# EAGLE library part MC14551 (library Traficon)
Quad 2?Channel Analog Multiplexer/Demultiplexer
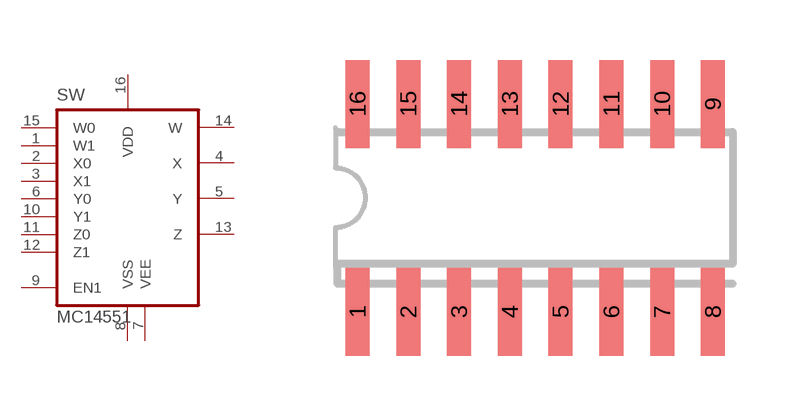
[diagram p102: symbol with the pads of SOIC16N; footprint SOIC16N]

Designator prefix SW

## MC14551  [SOIC16N]
1  W1
2  X0
3  X1
4  X
5  Y
6  Y0
7  VEE
8  VSS
9  EN1
10  Y1
11  Z0
12  Z1
13  Z
14  W
15  W0
16  VDD

## Footprint SOIC16N (pad centres in mm)
SMALL OUTLINE INTEGRATED CIRCUIT
smd 0.6 x 2.2: 1 -4.445,-2.6; 2 -3.175,-2.6; 3 -1.905,-2.6; 4 -0.635,-2.6; 5 0.635,-2.6; 6 1.905,-2.6; 7 3.175,-2.6; 8 4.445,-2.6; 9 4.445,2.6; 10 3.175,2.6; 11 1.905,2.6; 12 0.635,2.6; 13 -0.635,2.6; 14 -1.905,2.6; 15 -3.175,2.6; 16 -4.445,2.6